# Altium schematic symbol library 686 1xx 183 822.SchLib: 12 symbols
Pins are listed as number, name and electrical type; pins without a type are passive.

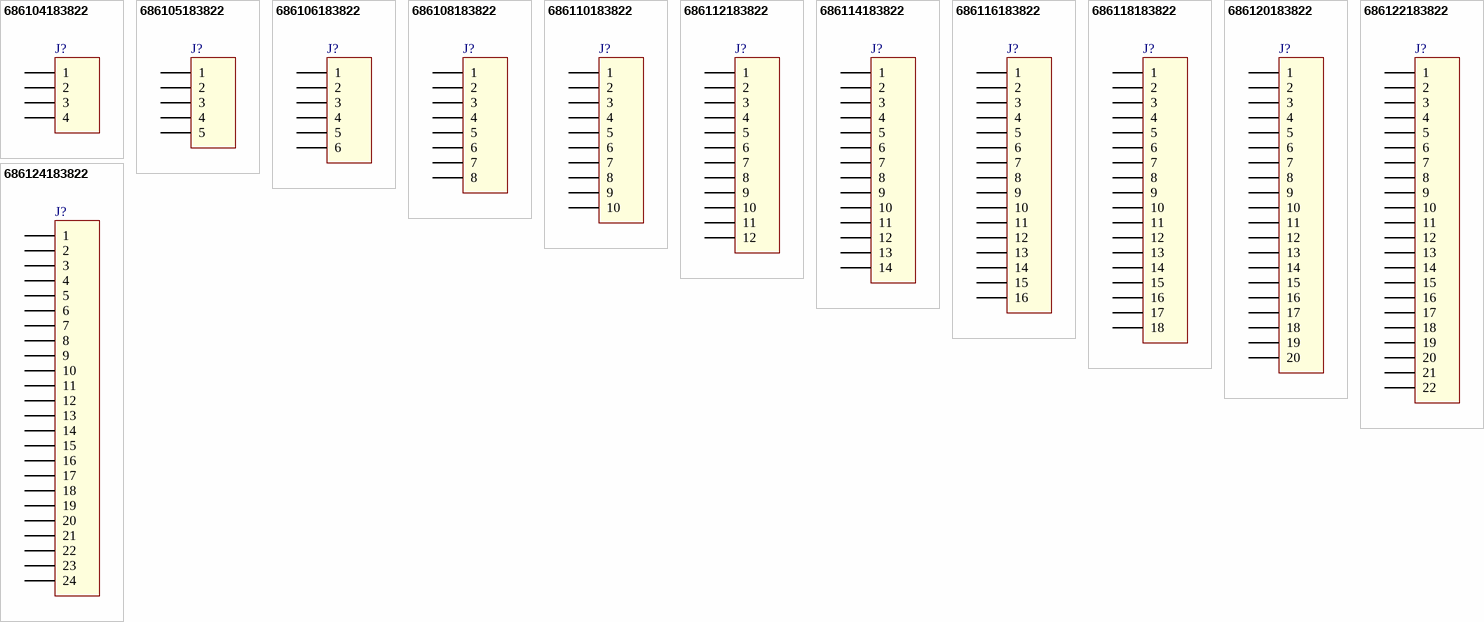
[diagram p0: symbols 686104183822 to 686124183822]

## 686104183822
designator J?
1.00 mm SMT ZIF Vertical Type A WR-FPC, 4 pins; Part Number: 686104183822; Pitch: 1 mm; Pin Number: 4; ComponentLink1Description: Manufacturer; ComponentLink1URL: http://www.we-online.de; ComponentLink2Description: Datasheet; ComponentLink2URL: http://katalog.we-online.com/em/datasheet/686104183822.pdf; Published Date: April 2017; Publisher: Wurth Elektronik
footprint 686104183822 (1.00 mm SMT ZIF Vertical Type A, 4p)
pins: 1, 2, 3, 4

## 686105183822
designator J?
1.00 mm SMT ZIF Vertical Type A WR-FPC, 5 pins; Part Number: 686105183822; Pitch: 1 mm; Pin Number: 5; ComponentLink1Description: Manufacturer; ComponentLink1URL: http://www.we-online.de; ComponentLink2Description: Datasheet; ComponentLink2URL: http://katalog.we-online.com/em/datasheet/686105183822.pdf; Published Date: April 2017; Publisher: Wurth Elektronik
footprint 686105183822 (1.00 mm SMT ZIF Vertical Type A, 5p)
pins: 1, 2, 3, 4, 5

## 686106183822
designator J?
1.00 mm SMT ZIF Vertical Type A WR-FPC, 6 pins; Part Number: 686106183822; Pitch: 1 mm; Pin Number: 6; ComponentLink1Description: Manufacturer; ComponentLink1URL: http://www.we-online.de; ComponentLink2Description: Datasheet; ComponentLink2URL: http://katalog.we-online.com/em/datasheet/686106183822.pdf; Published Date: April 2017; Publisher: Wurth Elektronik
footprint 686106183822 (1.00 mm SMT ZIF Vertical Type A, 6p)
pins: 1, 2, 3, 4, 5, 6

## 686108183822
designator J?
1.00 mm SMT ZIF Vertical Type A WR-FPC, 8 pins; Part Number: 686108183822; Pitch: 1 mm; Pin Number: 8; ComponentLink1Description: Manufacturer; ComponentLink1URL: http://www.we-online.de; ComponentLink2Description: Datasheet; ComponentLink2URL: http://katalog.we-online.com/em/datasheet/686108183822.pdf; Published Date: April 2017; Publisher: Wurth Elektronik
footprint 686108183822 (1.00 mm SMT ZIF Vertical Type A, 8p)
pins: 1, 2, 3, 4, 5, 6, 7, 8

## 686110183822
designator J?
1.00 mm SMT ZIF Vertical Type A WR-FPC, 10 pins; Part Number: 686110183822; Pitch: 1 mm; Pin Number: 10; ComponentLink1Description: Manufacturer; ComponentLink1URL: http://www.we-online.de; ComponentLink2Description: Datasheet; ComponentLink2URL: http://katalog.we-online.com/em/datasheet/686110183822.pdf; Published Date: April 2017; Publisher: Wurth Elektronik
footprint 686110183822 (1.00 mm SMT ZIF Vertical Type A, 10p)
pins: 1, 2, 3, 4, 5, 6, 7, 8, 9, 10

## 686112183822
designator J?
1.00 mm SMT ZIF Vertical Type A WR-FPC, 12 pins; Part Number: 686112183822; Pitch: 1 mm; Pin Number: 12; ComponentLink1Description: Manufacturer; ComponentLink1URL: http://www.we-online.de; ComponentLink2Description: Datasheet; ComponentLink2URL: http://katalog.we-online.com/em/datasheet/686112183822.pdf; Published Date: April 2017; Publisher: Wurth Elektronik
footprint 686112183822 (1.00 mm SMT ZIF Vertical Type A, 12p)
pins: 1, 2, 3, 4, 5, 6, 7, 8, 9, 10, 11, 12

## 686114183822
designator J?
1.00 mm SMT ZIF Vertical Type A WR-FPC, 14 pins; Part Number: 686114183822; Pitch: 1 mm; Pin Number: 14; ComponentLink1Description: Manufacturer; ComponentLink1URL: http://www.we-online.de; ComponentLink2Description: Datasheet; ComponentLink2URL: http://katalog.we-online.com/em/datasheet/686114183822.pdf; Published Date: April 2017; Publisher: Wurth Elektronik
footprint 686114183822 (1.00 mm SMT ZIF Vertical Type A, 14p)
pins: 1, 2, 3, 4, 5, 6, 7, 8, 9, 10, 11, 12, 13, 14

## 686116183822
designator J?
1.00 mm SMT ZIF Vertical Type A WR-FPC, 16 pins; Part Number: 686116183822; Pitch: 1 mm; Pin Number: 16; ComponentLink1Description: Manufacturer; ComponentLink1URL: http://www.we-online.de; ComponentLink2Description: Datasheet; ComponentLink2URL: http://katalog.we-online.com/em/datasheet/686116183822.pdf; Published Date: April 2017; Publisher: Wurth Elektronik
footprint 686116183822 (1.00 mm SMT ZIF Vertical Type A, 16p)
pins: 1, 2, 3, 4, 5, 6, 7, 8, 9, 10, 11, 12, 13, 14, 15, 16

## 686118183822
designator J?
1.00 mm SMT ZIF Vertical Type A WR-FPC, 18 pins; Part Number: 686118183822; Pitch: 1 mm; Pin Number: 18; ComponentLink1Description: Manufacturer; ComponentLink1URL: http://www.we-online.de; ComponentLink2Description: Datasheet; ComponentLink2URL: http://katalog.we-online.com/em/datasheet/686118183822.pdf; Published Date: April 2017; Publisher: Wurth Elektronik
footprint 686118183822 (1.00 mm SMT ZIF Vertical Type A, 18p)
pins: 1, 2, 3, 4, 5, 6, 7, 8, 9, 10, 11, 12, 13, 14, 15, 16, 17, 18

## 686120183822
designator J?
1.00 mm SMT ZIF Vertical Type A WR-FPC, 20 pins; Part Number: 686120183822; Pitch: 1 mm; Pin Number: 20; ComponentLink1Description: Manufacturer; ComponentLink1URL: http://www.we-online.de; ComponentLink2Description: Datasheet; ComponentLink2URL: http://katalog.we-online.com/em/datasheet/686120183822.pdf; Published Date: April 2017; Publisher: Wurth Elektronik
footprint 686120183822 (1.00 mm SMT ZIF Vertical Type A, 20p)
pins: 1, 2, 3, 4, 5, 6, 7, 8, 9, 10, 11, 12, 13, 14, 15, 16, 17, 18, 19, 20

## 686122183822
designator J?
1.00 mm SMT ZIF Vertical Type A WR-FPC, 22 pins; Part Number: 686122183822; Pitch: 1 mm; Pin Number: 22; ComponentLink1Description: Manufacturer; ComponentLink1URL: http://www.we-online.de; ComponentLink2Description: Datasheet; ComponentLink2URL: http://katalog.we-online.com/em/datasheet/686122183822.pdf; Published Date: April 2017; Publisher: Wurth Elektronik
footprint 686122183822 (1.00 mm SMT ZIF Vertical Type A, 22p)
pins: 1, 2, 3, 4, 5, 6, 7, 8, 9, 10, 11, 12, 13, 14, 15, 16, 17, 18, 19, 20, 21, 22

## 686124183822
designator J?
1.00 mm SMT ZIF Vertical Type A WR-FPC, 24 pins; Part Number: 686124183822; Pitch: 1 mm; Pin Number: 24; ComponentLink1Description: Manufacturer; ComponentLink1URL: http://www.we-online.de; ComponentLink2Description: Datasheet; ComponentLink2URL: http://katalog.we-online.com/em/datasheet/686124183822.pdf; Published Date: April 2017; Publisher: Wurth Elektronik
footprint 686124183822 (1.00 mm SMT ZIF Vertical Type A, 24p)
pins: 1, 2, 3, 4, 5, 6, 7, 8, 9, 10, 11, 12, 13, 14, 15, 16, 17, 18, 19, 20, 21, 22, 23, 24